# Altium schematic symbol library SCH - INTERFACE - I2C -  PCAL9539APW,118.SCHLIB: 1 symbol
Pins are listed as number, name and electrical type; pins without a type are passive.

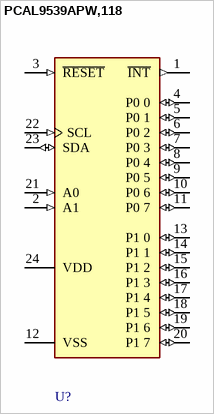
[diagram p0: symbol PCAL9539APW,118]

## PCAL9539APW,118
designator U?
pins: 1 ~{INT} (out), 2 A1 (in), 3 ~{RESET} (in), 4 P0 0 (io), 5 P0 1 (io), 6 P0 2 (io), 7 P0 3 (io), 8 P0 4 (io), 9 P0 5 (io), 10 P0 6 (io), 11 P0 7 (io), 12 VSS (power), 13 P1 0 (io), 14 P1 1 (io), 15 P1 2 (io), 16 P1 3 (io), 17 P1 4 (io), 18 P1 5 (io), 19 P1 6 (io), 20 P1 7 (io), 21 A0 (in), 22 SCL (in), 23 SDA (io), 24 VDD (power)